# EAGLE library part BLUESMIRF (library BlueSMIRF Silver)
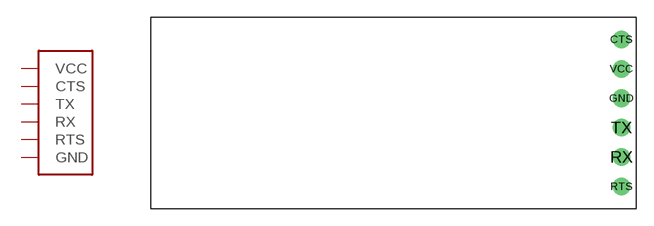
[diagram p0: symbol with the pads of BLUESMIRF; footprint BLUESMIRF]

Designator prefix -

## BLUESMIRF  [BLUESMIRF]
CTS  CTS
GND  GND
RTS  RTS
RX  RX
TX  TX
VCC  VCC

## Footprint BLUESMIRF (pad centres in mm)
drill 1.016: CTS 40.64,14.605; GND 40.64,9.525; RTS 40.64,1.905; RX 40.64,4.445; TX 40.64,6.985; VCC 40.64,12.065